# Altium footprint library PCB - CONNECTOR - SULLINS - SULLINS PPPC022LFBN-RC.PCBLIB: 1 footprints
Each footprint in its own frame and in the unit in brackets; x right, y up, seen from the top. Pads: shape width x height; smd on the part's side, far side on the other; paste and mask are expansions set on the pad; w line width, h text height; cw(c..) or ccw(c..) is an arc to the next point about the centre after c.
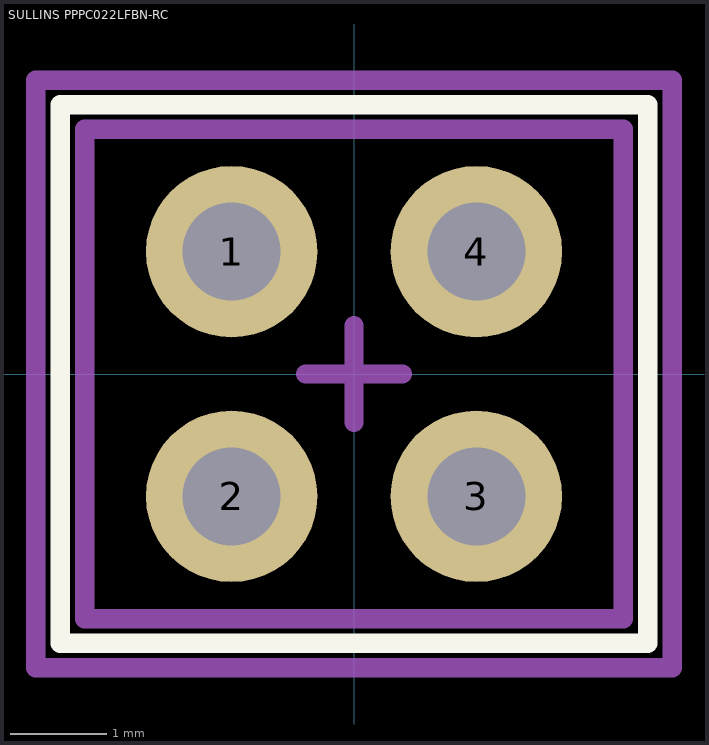
[diagram p0: the footprint, top view; thin cyan lines are the x and y axes]

## SULLINS PPPC022LFBN-RC [mil]
height 335.04
pads (4):
  round 70 hole 40: 1(-50,50) 2(-50,-50) 3(50,-50) 4(50,50)
Top Overlay:
  lines w7.87: -120,-110 -120,110 120,110 120,-110 -120,-110
Mechanical 1:
  lines w7.87: -110,-100 -110,100 110,100 110,-100 -110,-100
Mechanical 15:
  lines w7.87: -19.68,0 19.68,0 ; 0,-19.68 0,19.68 ; -130,-120 -130,120 130,120 130,-120 -130,-120
3D body "Sullins - PPPC022LFBN-RC.STEP": height 336.61, standoff -124.02, extent -109.84,-100 109.84,100